# Altium footprint library SnapEDApcb.PcbLib: 1 footprints
Each footprint in its own frame and in the unit in brackets; x right, y up, seen from the top. Pads: shape width x height; smd on the part's side, far side on the other; paste and mask are expansions set on the pad; w line width, h text height; cw(c..) or ccw(c..) is an arc to the next point about the centre after c.
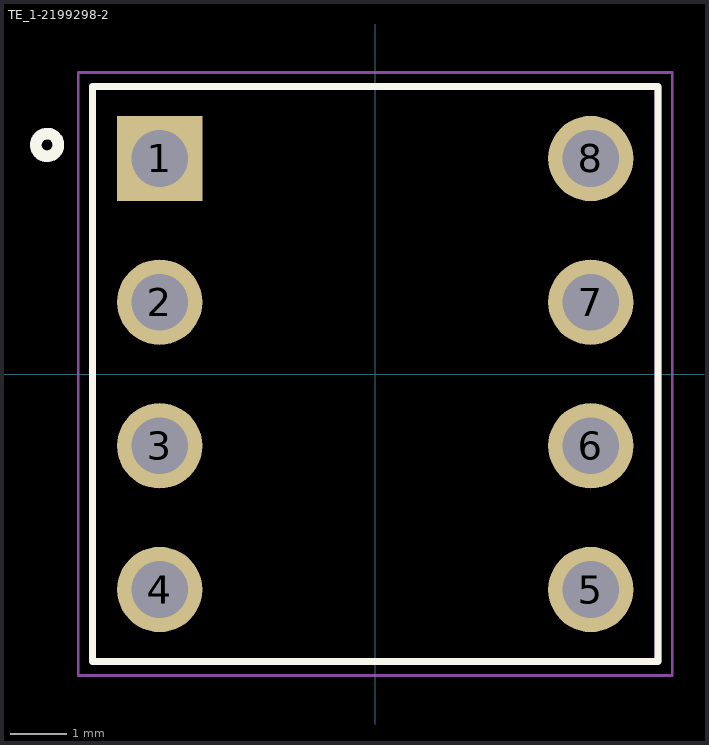
[diagram p0: the footprint, top view; thin cyan lines are the x and y axes]

## TE_1-2199298-2 [mm]
pads (8):
  rect 1.508x1.508 hole 1: 1(-3.81,3.81)
  round 1.508 hole 1: 2(-3.81,1.27) 3(-3.81,-1.27) 4(-3.81,-3.81) 5(3.81,-3.81) 6(3.81,-1.27) 7(3.81,1.27) 8(3.81,3.81)
Top Overlay:
  circle w0.203: c-5.8,4.05 r0.2
  lines w0.127: -5,-5.08 5,-5.08 5,5.08 -5,5.08 -5,-5.08
Mechanical 13:
  circle w0.203: c-5.8,4.05 r0.2
  lines w0.127: -5,-5.08 5,-5.08 5,5.08 -5,5.08 -5,-5.08
Mechanical 15:
  lines w0.05: -5.25,-5.33 5.25,-5.33 5.25,5.33 -5.25,5.33 -5.25,-5.33